# EAGLE library part XB11 (library connectors)
Backplane connector 11 pins
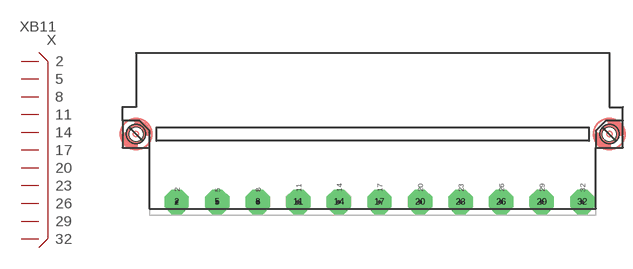
[diagram p2: symbol with the pads of XB11; footprint XB11]

Designator prefix X

## XB11  [XB11]
2  2
5  5
8  8
11  11
14  14
17  17
20  20
23  23
26  26
29  29
32  32

## Footprint XB11 (pad centres in mm)
Backplane connector 11 pins
drill 1.295 pad 4.572 octagon: 2 0,0; 5 7.62,0; 8 15.24,0; 11 22.86,0; 14 30.48,0; 17 38.1,0; 20 45.72,0; 23 53.34,0; 26 60.96,0; 29 68.58,0; 32 76.2,0
hole 2.692 at -7.62,12.7
hole 2.692 at 81.28,12.7